# Altium schematic symbol library LED_4PIN_GRN13_RED24.SchLib: 1 symbol
Pins are listed as number, name and electrical type; pins without a type are passive.

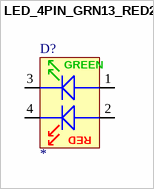
[diagram p0: symbol LED_4PIN_GRN13_RED24]

## LED_4PIN_GRN13_RED24
designator D?
pins: 1 GA, 2 RA, 3 GC, 4 RC
text: GREEN; RED